# Altium footprint library PcbLib.PcbLib: 12 footprints
Each footprint in its own frame and in the unit in brackets; x right, y up, seen from the top. Pads: shape width x height; smd on the part's side, far side on the other; paste and mask are expansions set on the pad; w line width, h text height; cw(c..) or ccw(c..) is an arc to the next point about the centre after c.
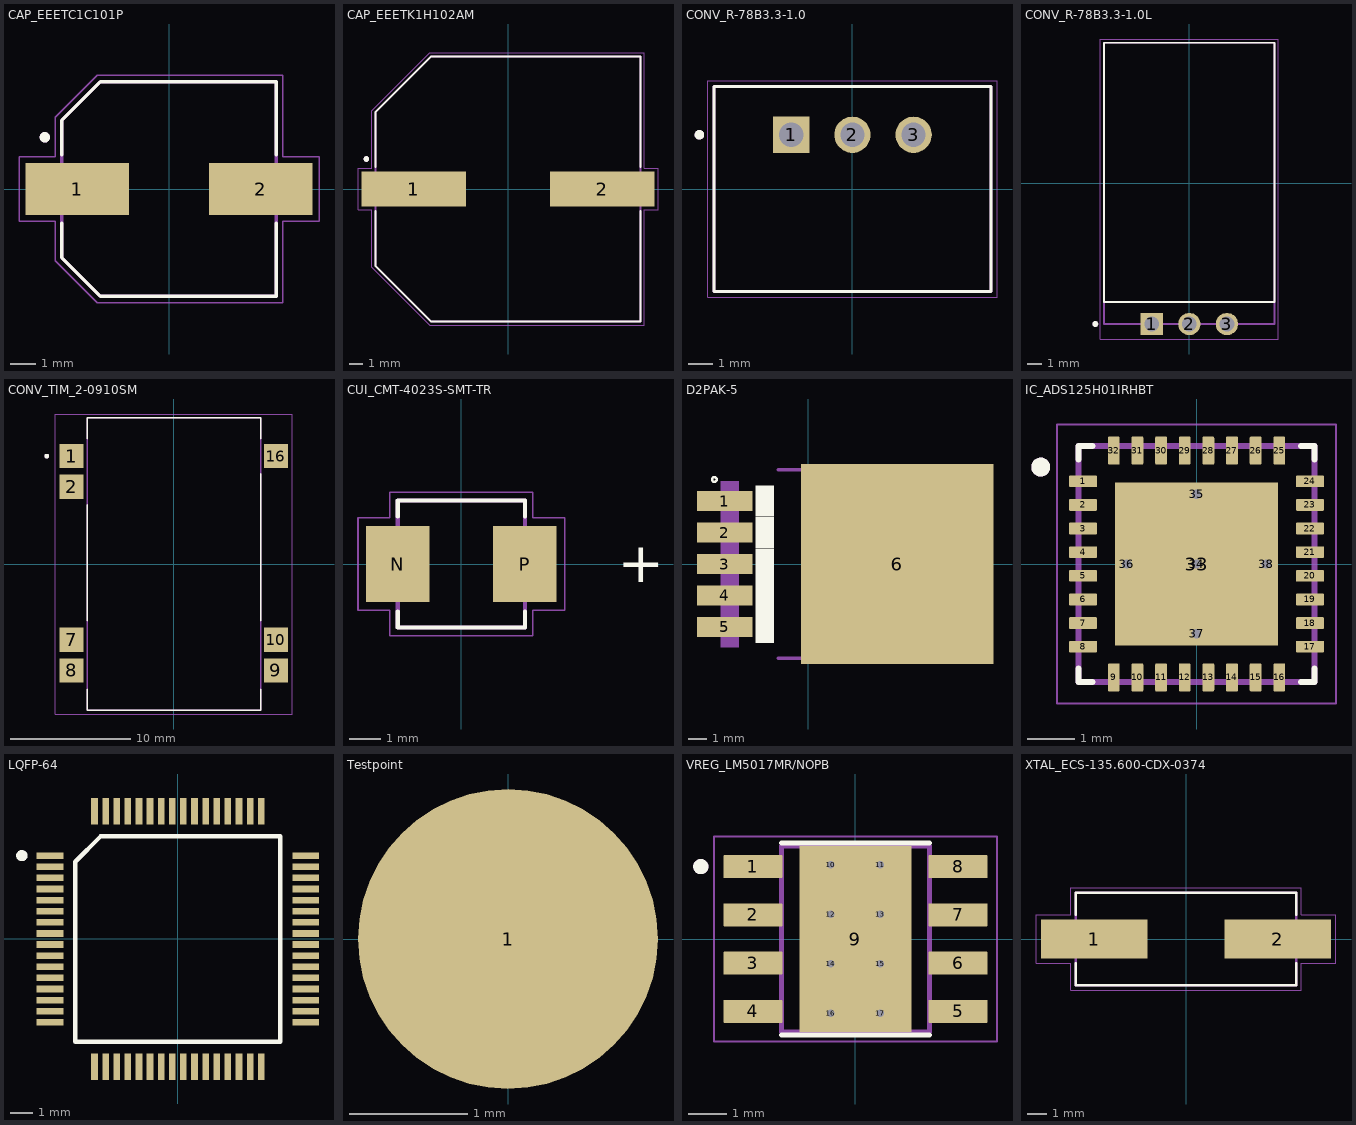
[diagram p0: the footprints below, top view; thin cyan lines are the x and y axes]

## CAP_EEETC1C101P [mm]
pads (2):
  rect 4x2 smd: 1(-3.55,0) 2(3.55,0)
Top Overlay:
  circle w0.2: c-4.8,2 r0.1
  lines w0.127: -4.15,-1.32 -4.15,-2.65 -2.65,-4.15 4.15,-4.15 4.15,-1.32 ; -4.15,1.32 -4.15,2.65 -2.65,4.15 4.15,4.15 4.15,1.32
Mechanical 13:
  circle w0.2: c-4.8,2 r0.1
  lines w0.127: -4.15,-2.65 -2.65,-4.15 4.15,-4.15 4.15,4.15 -2.65,4.15 -4.15,2.65 -4.15,-2.65
Mechanical 15:
  lines w0.05: -5.8,-1.25 -5.8,1.25 -4.4,1.25 -4.4,2.775 -2.775,4.4 4.4,4.4 4.4,1.25 5.8,1.25 5.8,-1.25 4.4,-1.25 4.4,-4.4 -2.775,-4.4 -4.4,-2.775 -4.4,-1.25 -5.8,-1.25
3D body "step_temp.STEP": height 10.2, standoff 0, extent -4.85,-4.15 4.85,4.15

## CAP_EEETK1H102AM [mm]
pads (2):
  rect 7.5x2.5 smd: 1(-6.75,0) 2(6.75,0)
Top Overlay:
  circle w0.2: c-10.15,2.15 r0.1
  lines w0.127: -9.5,-1.57 -9.5,-5.5 -5.5,-9.5 9.5,-9.5 9.5,-1.57 ; -9.5,1.57 -9.5,5.5 -5.5,9.5 9.5,9.5 9.5,1.57
Mechanical 13:
  circle w0.2: c-10.15,2.15 r0.1
  lines w0.127: -9.5,-5.5 -9.5,5.5 -5.5,9.5 9.5,9.5 9.5,-9.5 -5.5,-9.5 -9.5,-5.5
Mechanical 15:
  lines w0.05: -10.75,-1.5 -9.75,-1.5 -9.75,-5.625 -5.625,-9.75 9.75,-9.75 9.75,-1.5 10.75,-1.5 10.75,1.5 9.75,1.5 9.75,9.75 -5.625,9.75 -9.75,5.625 -9.75,1.5 -10.75,1.5 -10.75,-1.5
3D body "EEETK1H102AM.STEP": height 16.51, standoff 0.01, extent -10.2,-9.5 10.2,9.5

## CONV_R-78B3.3-1.0 [mm]
pads (3):
  rect 1.508x1.508 hole 1: 1(-2.54,2.25)
  round 1.508 hole 1: 2(0,2.25) 3(2.54,2.25)
Top Overlay:
  circle w0.2: c-6.35,2.25 r0.1
  lines w0.127: -5.75,-4.25 5.75,-4.25 5.75,4.25 -5.75,4.25 -5.75,-4.25
Mechanical 13:
  circle w0.2: c-6.35,2.25 r0.1
  lines w0.127: -5.75,-4.25 5.75,-4.25 5.75,4.25 -5.75,4.25 -5.75,-4.25
Mechanical 15:
  lines w0.05: -6,-4.5 6,-4.5 6,4.5 -6,4.5 -6,-4.5

## CONV_R-78B3.3-1.0L [mm]
pads (3):
  rect 1.508x1.508 hole 1: 1(-2.54,-9.5)
  round 1.508 hole 1: 2(0,-9.5) 3(2.54,-9.5)
Top Overlay:
  circle w0.2: c-6.35,-9.5 r0.1
  lines w0.127: -5.75,-8 -5.75,9.5 5.75,9.5 5.75,-8 -5.75,-8
Mechanical 13:
  circle w0.2: c-6.35,-9.5 r0.1
  lines w0.127: -5.75,-9.5 -5.75,9.5 5.75,9.5 5.75,-9.5 -5.75,-9.5
Mechanical 15:
  lines w0.05: -6,-10.51 -6,9.75 6,9.75 6,-10.51 -6,-10.51
3D body "R-78B3.3-1.0.STEP": height 8.51, standoff -4.09, extent -5.8,-9.747 5.8,9.253

## CONV_TIM_2-0910SM [mm]
pads (7):
  rect 2x2 smd: 1(-8.48,8.95) 2(-8.48,6.41) 7(-8.48,-6.29) 8(-8.48,-8.83) 9(8.48,-8.83) 10(8.48,-6.29) 16(8.48,8.95)
Top Overlay:
  circle w0.2: c-10.55,8.95 r0.1
  lines w0.127: -7.2,-10.4 -7.2,-12.15 7.2,-12.15 7.2,-10.4 ; -7.2,-4.7 -7.2,4.9 ; -7.2,10.4 -7.2,12.15 7.2,12.15 7.2,10.4 ; 7.2,-4.7 7.2,7.5
Mechanical 13:
  circle w0.2: c-10.55,8.95 r0.1
  lines w0.127: -7.2,-12.15 -7.2,12.15 7.2,12.15 7.2,-12.15 -7.2,-12.15
Mechanical 15:
  lines w0.05: -9.85,-12.45 -9.85,12.45 9.85,12.45 9.85,-12.45 -9.85,-12.45
3D body "TIM 2-0910SM--3DModel-STEP-1.STEP": height 10.21, standoff -0.24, extent -9.21,-12.125 8.89,12.125

## CUI_CMT-4023S-SMT-TR [mm]
pads (2):
  rect 2x2.4 smd: N(-2,0) P(2,0)
Top Overlay:
  lines w0.127: -2,-1.5 -2,-2 2,-2 2,-1.5 ; -2,1.5 -2,2 2,2 2,1.5
  text "+" at 4.914,-0.58 h1.27
Mechanical 13:
  lines w0.127: -2,-2 -2,2 2,2 2,-2 -2,-2
Mechanical 15:
  lines w0.05: -3.25,-1.45 -3.25,1.45 -2.25,1.45 -2.25,2.25 2.25,2.25 2.25,1.45 3.25,1.45 3.25,-1.45 2.25,-1.45 2.25,-2.25 -2.25,-2.25 -2.25,-1.45 -3.25,-1.45
3D body "CUI_DEVICES_CMT-4023S-SMT-TR.step": height 2, standoff 0, extent -2,-2 2,2

## D2PAK-5 [mil]
pads (6):
  rect 118.11x42 smd: 1(-178,134) 2(-178,67) 3(-178,0) 4(-178,-67) 5(-178,-134)
  rect 409.84x425.2 smd: 6(189.37,0)
Top Overlay:
  circle w5: c-200,180 r5
  region: -74,-167.31 -112.21,-167.31 -112.21,-101 -74,-101
  region: -74,-100.31 -112.34,-100.31 -112.34,-34 -74,-34
  region: -74,-33.03 -112.1,-33.03 -112.1,33 -74,33
  region: -74,34.11 -112.35,34.11 -112.35,100 -74,100
  region: -74,101.34 -112.38,101.34 -112.38,167 -74,167
Mechanical 13:
  region: 370.29,133 370.29,-133 352.29,-201 336.1,-201 336.1,201 352.29,201
  region: -148.5,-176.81 -186.83,-176.81 -186.83,-91.5 -148.5,-91.5
  region: -148.5,-109.79 -187,-109.79 -187,-24.5 -148.5,-24.5
  region: -148.5,-42.57 -186.81,-42.57 -186.81,42.5 -148.5,42.5
  region: -148.5,24.56 -186.97,24.56 -186.97,109.5 -148.5,109.5
  region: -148.5,91.71 -186.93,91.71 -186.93,176.5 -148.5,176.5
  lines w8: -63.39,-200.55 332.09,-200.55 332.09,200.55 -63.39,200.55 ; 336.1,-200.98 336.1,200.98 352.28,200.98 370.28,132.99 370.28,-132.99 352.28,-200.98 336.1,-200.98
3D body "LM2576D2TR4-3.3G.STEP": height 180.5, standoff 0.5, extent -159,-199.75 400,199.75

## IC_ADS125H01IRHBT [mm]
pads (38):
  rrect25% 0.6x0.25 smd mask+0: 1(-2.4,1.75) 2(-2.4,1.25) 3(-2.4,0.75) 4(-2.4,0.25) 5(-2.4,-0.25) 6(-2.4,-0.75) 7(-2.4,-1.25) 8(-2.4,-1.75) 17(2.4,-1.75) 18(2.4,-1.25) 19(2.4,-0.75) 20(2.4,-0.25) 21(2.4,0.25) 22(2.4,0.75) 23(2.4,1.25) 24(2.4,1.75)
  rrect25% 0.25x0.6 smd mask+0: 9(-1.75,-2.4) 10(-1.25,-2.4) 11(-0.75,-2.4) 12(-0.25,-2.4) 13(0.25,-2.4) 14(0.75,-2.4) 15(1.25,-2.4) 16(1.75,-2.4) 25(1.75,2.4) 26(1.25,2.4) 27(0.75,2.4) 28(0.25,2.4) 29(-0.25,2.4) 30(-0.75,2.4) 31(-1.25,2.4) 32(-1.75,2.4)
  rect 3.45x3.45 smd paste-3 mask+0: 33(0,0)
  round 0.4 hole 0.2 mask+0: 34(0,0) 35(0,1.475) 36(-1.475,0) 37(0,-1.475) 38(1.475,0)
Top Overlay:
  circle w0.2: c-3.295,2.05 r0.1
  lines w0.127: -2.5,-2.205 -2.5,-2.5 -2.205,-2.5 ; -2.5,2.205 -2.5,2.5 -2.205,2.5 ; 2.205,-2.5 2.5,-2.5 2.5,-2.205 ; 2.205,2.5 2.5,2.5 2.5,2.205
Top Paste:
  region: 1.59,-1.59 0.1,-1.59 0.1,-0.1 1.59,-0.1
  region: -0.1,-1.59 -1.59,-1.59 -1.59,-0.1 -0.1,-0.1
  region: 1.59,0.1 0.1,0.1 0.1,1.59 1.59,1.59
  region: -0.1,0.1 -1.59,0.1 -1.59,1.59 -0.1,1.59
Top Solder:
  drawing of 33 lines, arcs and shapes, not listed
Mechanical 13:
  circle w0.2: c-3.295,2.05 r0.1
  lines w0.127: -2.5,-2.5 -2.5,2.5 2.5,2.5 2.5,-2.5 -2.5,-2.5
Mechanical 15:
  lines w0.05: -2.95,-2.95 -2.95,2.95 2.95,2.95 2.95,-2.95 -2.95,-2.95
3D body "step_temp.STEP": height 1, standoff 0, extent -2.5,-2.5 2.5,2.5

## LQFP-64 [mm]
pads (64):
  rect 1.2x0.3 smd mask+0.05: 1(-5.75,3.75) 2(-5.75,3.25) 3(-5.75,2.75) 4(-5.75,2.25) 5(-5.75,1.75) 6(-5.75,1.25) 7(-5.75,0.75) 8(-5.75,0.25) 9(-5.75,-0.25) 10(-5.75,-0.75) 11(-5.75,-1.25) 12(-5.75,-1.75) 13(-5.75,-2.25) 14(-5.75,-2.75) 15(-5.75,-3.25) 16(-5.75,-3.75) 33(5.75,-3.75) 34(5.75,-3.25) 35(5.75,-2.75) 36(5.75,-2.25) 37(5.75,-1.75) 38(5.75,-1.25) 39(5.75,-0.75) 40(5.75,-0.25) 41(5.75,0.25) 42(5.75,0.75) 43(5.75,1.25) 44(5.75,1.75) 45(5.75,2.25) 46(5.75,2.75) 47(5.75,3.25) 48(5.75,3.75)
  rect 0.3x1.2 smd mask+0.05: 17(-3.75,-5.75) 18(-3.25,-5.75) 19(-2.75,-5.75) 20(-2.25,-5.75) 21(-1.75,-5.75) 22(-1.25,-5.75) 23(-0.75,-5.75) 24(-0.25,-5.75) 25(0.25,-5.75) 26(0.75,-5.75) 27(1.25,-5.75) 28(1.75,-5.75) 29(2.25,-5.75) 30(2.75,-5.75) 31(3.25,-5.75) 32(3.75,-5.75) 49(3.75,5.75) 50(3.25,5.75) 51(2.75,5.75) 52(2.25,5.75) 53(1.75,5.75) 54(1.25,5.75) 55(0.75,5.75) 56(0.25,5.75) 57(-0.25,5.75) 58(-0.75,5.75) 59(-1.25,5.75) 60(-1.75,5.75) 61(-2.25,5.75) 62(-2.75,5.75) 63(-3.25,5.75) 64(-3.75,5.75)
Top Overlay:
  circle w0.25: c-7.02,3.75 r0.127
  lines w0.2: -4.615,-4.615 4.615,-4.615 4.615,4.615 -3.48,4.615 -4.615,3.48 -4.615,-4.615
3D body "STM32L451RCT6.STEP": height 1.46, standoff -0.14, extent -6,-6 6,6

## Testpoint [mm]
pads (1):
  round 2.54 smd: 1(0,0)

## VREG_LM5017MR/NOPB [mm]
pads (17):
  rrect5% 1.55x0.6 smd mask+0: 1(-2.7,1.905) 2(-2.7,0.635) 3(-2.7,-0.635) 4(-2.7,-1.905) 5(2.7,-1.905) 6(2.7,-0.635) 7(2.7,0.635) 8(2.7,1.905)
  rect 2.95x4.9 smd paste-3 mask+0: 9(0,0)
  round 0.3 hole 0.2: 10(-0.65,1.95) 11(0.65,1.95) 12(-0.65,0.65) 13(0.65,0.65) 14(-0.65,-0.65) 15(0.65,-0.65) 16(-0.65,-1.95) 17(0.65,-1.95)
Top Overlay:
  circle w0.2: c-4.07,1.905 r0.1
  lines w0.127: -1.95,-2.525 1.95,-2.525 ; -1.95,2.525 1.95,2.525
Top Paste:
  region: 1.355,-1.7 -1.355,-1.7 -1.355,1.7 1.355,1.7
Top Solder:
  drawing of 9 lines, arcs and shapes, not listed
Mechanical 13:
  circle w0.2: c-4.07,1.905 r0.1
  lines w0.127: -1.95,-2.45 -1.95,2.45 1.95,2.45 1.95,-2.45 -1.95,-2.45
Mechanical 15:
  lines w0.05: -3.725,-2.7 -3.725,2.7 3.725,2.7 3.725,-2.7 -3.725,-2.7
3D body "NOPB.STEP": height 1.56, standoff -0.14, extent -3.127,-2.413 2.873,2.487

## XTAL_ECS-135.600-CDX-0374 [mm]
pads (2):
  rect 5.5x2 smd: 1(-4.75,0) 2(4.75,0)
Top Overlay:
  lines w0.127: -5.7,-1.254 -5.7,-2.4 5.7,-2.4 5.7,-1.254 ; -5.7,1.254 -5.7,2.4 5.7,2.4 5.7,1.254
Mechanical 13:
  lines w0.127: -5.7,-2.4 -5.7,2.4 5.7,2.4 5.7,-2.4 -5.7,-2.4
Mechanical 15:
  lines w0.05: -7.75,-1.25 -5.95,-1.25 -5.95,-2.65 5.95,-2.65 5.95,-1.25 7.75,-1.25 7.75,1.25 5.95,1.25 5.95,2.65 -5.95,2.65 -5.95,1.25 -7.75,1.25 -7.75,-1.25